# EAGLE library part 16-05529 (library dec-con)
Delay Line (M311 style)
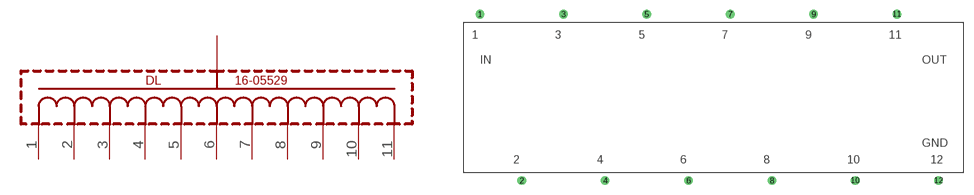
[diagram p54: symbol with the pads of 16-05529; footprint 16-05529]

Designator prefix DL

## 16-05529  [16-05529]
1  0  pas
2  5  pas
3  10  pas
4  15  pas
5  20  pas
6  25  pas
7  30  pas
8  35  pas
9  40  pas
10  45  pas
11  50  pas
12  GND  pas

## Footprint 16-05529 (pad centres in mm)
Tapped Delay Line
drill 0.813: 1 -35.56,12.7; 2 -29.21,-12.7; 3 -22.86,12.7; 4 -16.51,-12.7; 5 -10.16,12.7; 6 -3.81,-12.7; 7 2.54,12.7; 8 8.89,-12.7; 9 15.24,12.7; 10 21.59,-12.7; 11 27.94,12.7; 12 34.29,-12.7